# Altium footprint library 0547220204.PcbLib: 1 footprints
Each footprint in its own frame and in the unit in brackets; x right, y up, seen from the top. Pads: shape width x height; smd on the part's side, far side on the other; paste and mask are expansions set on the pad; w line width, h text height; cw(c..) or ccw(c..) is an arc to the next point about the centre after c.
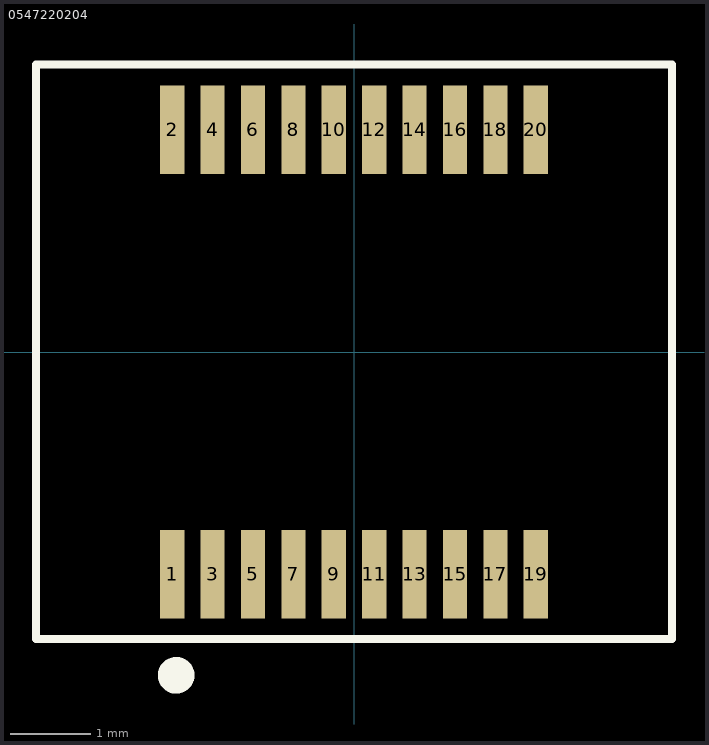
[diagram p0: the footprint, top view; thin cyan lines are the x and y axes]

## 0547220204 [mm]
pads (20):
  rect 0.3x1.1 smd mask+0.06: 1(-2.25,-2.75) 2(-2.25,2.75) 3(-1.75,-2.75) 4(-1.75,2.75) 5(-1.25,-2.75) 6(-1.25,2.75) 7(-0.75,-2.75) 8(-0.75,2.75) 10(-0.25,2.75) 11(0.25,-2.75) 12(0.25,2.75) 13(0.75,-2.75) 14(0.75,2.75) 15(1.25,-2.75) 16(1.25,2.75) 17(1.75,-2.75) 18(1.75,2.75) 19(2.25,-2.75) 20(2.25,2.75)
  rect 0.3x1.1 smd paste+0 mask+0.06: 9(-0.25,-2.75)
Top Overlay:
  circle w0.254: c-2.2,-4 r0.1
  lines w0.1: -3.937,-3.55 -3.937,3.556 3.937,3.556 3.937,-3.55 -3.937,-3.55
3D body "547220204.stp": height 1.17, standoff -0.03, extent -3.8,-3 3.8,3